# EAGLE library part MOD_INPUT_6_21PIN_40106 (library vinoth-autodeskEagle)
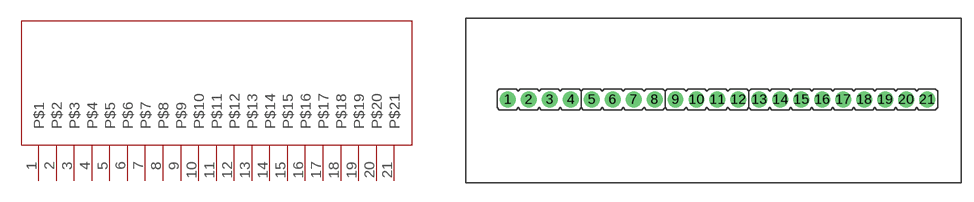
[diagram p10: symbol with the pads of MOD_INPUT_6_21PIN_40106; footprint MOD_INPUT_6_21PIN_40106]

Designator prefix -

## MOD_INPUT_6_21PIN_40106  [MOD_INPUT_6_21PIN_40106]
1  P$1
2  P$2
3  P$3
4  P$4
5  P$5
6  P$6
7  P$7
8  P$8
9  P$9
10  P$10
11  P$11
12  P$12
13  P$13
14  P$14
15  P$15
16  P$16
17  P$17
18  P$18
19  P$19
20  P$20
21  P$21

## Footprint MOD_INPUT_6_21PIN_40106 (pad centres in mm)
drill 0.914 pad 1.93: 1 5.08,10.16; 2 7.62,10.16; 3 10.16,10.16; 4 12.7,10.16; 5 15.24,10.16; 6 17.78,10.16; 7 20.32,10.16; 8 22.86,10.16; 9 25.4,10.16; 10 27.94,10.16; 11 30.48,10.16; 12 33.02,10.16; 13 35.56,10.16; 14 38.1,10.16; 15 40.64,10.16; 16 43.18,10.16; 17 45.72,10.16; 18 48.26,10.16; 19 50.8,10.16; 20 53.34,10.16; 21 55.88,10.16